# Altium footprint library osc_dev.PcbLib: 32 footprints (part 2 of 2)
Each footprint in its own frame and in the unit in brackets; x right, y up, seen from the top. Pads: shape width x height; smd on the part's side, far side on the other; paste and mask are expansions set on the pad; w line width, h text height; cw(c..) or ccw(c..) is an arc to the next point about the centre after c.
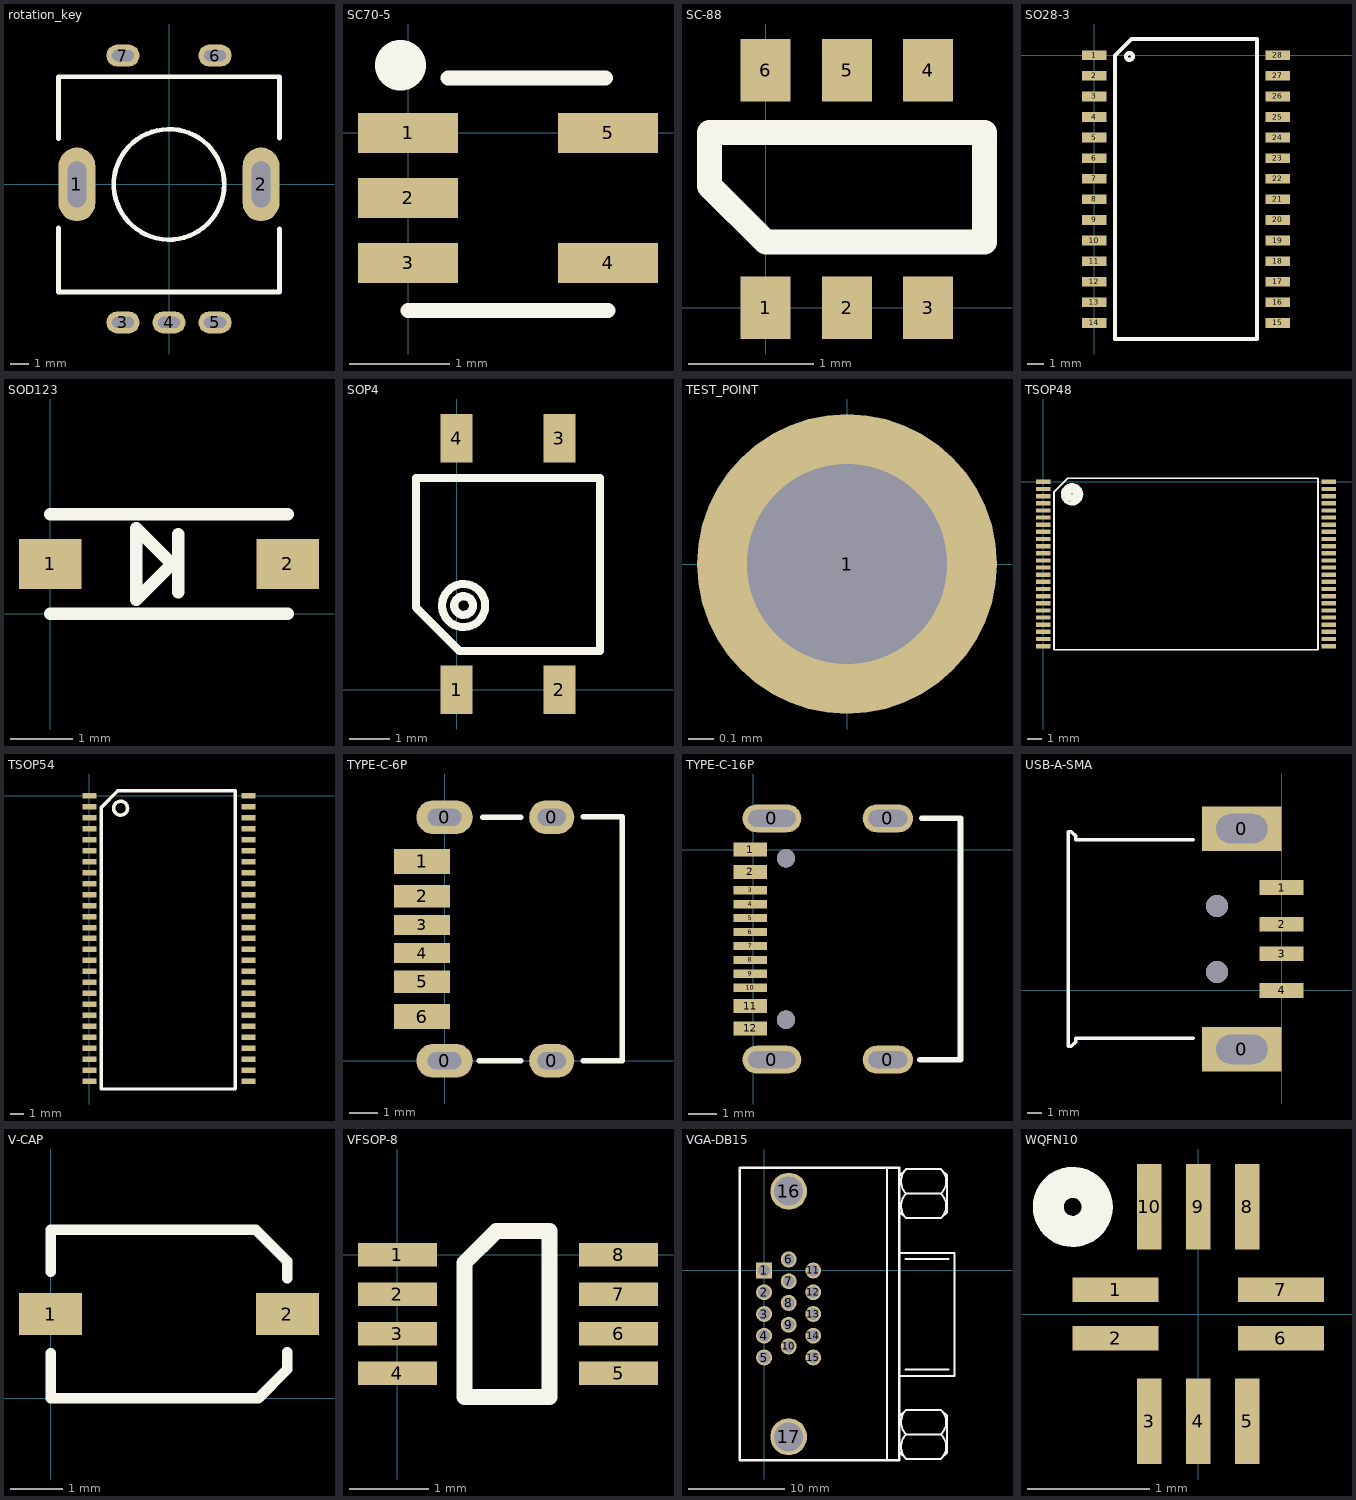
[diagram p1: the footprints below, top view; thin cyan lines are the x and y axes]

## rotation_key [mm]
pads (7):
  oval 2x4 hole 1 slot 2.5 at 90 deg: 1(-5,0) 2(5,0)
  oval 1.8x1.2 hole 0.6 slot 1.2 at 0 deg: 3(-2.5,-7.5) 4(0,-7.5) 5(2.5,-7.5) 6(2.5,7) 7(-2.5,7)
Top Overlay:
  circle w0.254: c0,0 r3
  lines w0.254: -6,-2.35 -6,-5.85 6,-5.85 6,-2.425 ; -6,2.475 -6,5.85 6,5.85 6,2.5

## SC70-5 [mm]
pads (5):
  rect 1x0.4 smd: 1(0,0) 2(0,-0.65) 3(0,-1.3) 4(2,-1.3) 5(2,0)
Top Overlay:
  lines w0.15: 0,-1.775 2,-1.775 ; 0.4,0.55 1.975,0.55 ; 0.4,0.55 0.4,0.55 ; 1.975,0.55 1.975,0.55 ; 1.975,0.55 1.975,0.55
  lines w0.508: -0.075,0.675 ccw(c-0.075,0.675) -0.075,0.675

## SC-88 [mm]
pads (6):
  rect 0.4x0.5 smd: 1(0,0) 2(0.65,0) 3(1.3,0) 4(1.3,1.9) 5(0.65,1.9) 6(0,1.9)
Top Overlay:
  lines w0.2: -0.45,0.975 0,0.525 1.75,0.525 1.75,1.4 -0.45,1.4 -0.45,0.975

## SO28-3 [mm]
pads (28):
  rect 1.5x0.6 smd: 1(0,0) 2(0,-1.27) 3(0,-2.54) 4(0,-3.81) 5(0,-5.08) 6(0,-6.35) 7(0,-7.62) 8(0,-8.89) 9(0,-10.16) 10(0,-11.43) 11(0,-12.7) 12(0,-13.97) 13(0,-15.24) 14(0,-16.51) 15(11.3,-16.51) 16(11.3,-15.24) 17(11.3,-13.97) 18(11.3,-12.7) 19(11.3,-11.43) 20(11.3,-10.16) 21(11.3,-8.89) 22(11.3,-7.62) 23(11.3,-6.35) 24(11.3,-5.08) 25(11.3,-3.81) 26(11.3,-2.54) 27(11.3,-1.27) 28(11.3,0)
Top Overlay:
  circle w0.254: c2.163,-0.075 r0.212
  lines w0.254: 1.275,-17.5 1.275,-0.025 2.3,1 10.025,1 10.025,-17.5 1.275,-17.5

## SOD123 [mm]
pads (2):
  rect 1x0.8 smd: 1(0,0.8) 2(3.8,0.8)
Top Overlay:
  lines w0.2: 0,0 3.8,0 ; 0,1.6 3.8,1.6 ; 2.05,0.35 2.05,1.275 ; 1.375,1.375 1.95,0.8 1.925,0.775 1.375,0.225 1.375,1.375 ; 1.375,1.375 1.375,1.375

## SOP4 [mm]
pads (4):
  rect 0.8x1.2 smd: 1(0,0) 2(2.54,0) 3(2.54,6.2) 4(0,6.2)
Top Overlay:
  circle w0.2: c0.175,2.075 r0.532
  circle w0.2: c0.175,2.075 r0.23
  lines w0.2: -1,2.025 -1,5.225 3.54,5.225 3.54,0.95 0.075,0.95 -1,2.025

## TEST_POINT [mm]
pads (1):
  round 1.2 hole 0.8: 1(0,0)

## TSOP48 [mm]
pads (48):
  rect 1x0.3 smd: 1(0,0) 2(0,-0.5) 3(0,-1) 4(0,-1.5) 5(0,-2) 6(0,-2.5) 7(0,-3) 8(0,-3.5) 9(0,-4) 10(0,-4.5) 11(0,-5) 12(0,-5.5) 13(0,-6) 14(0,-6.5) 15(0,-7) 16(0,-7.5) 17(0,-8) 18(0,-8.5) 19(0,-9) 20(0,-9.5) 21(0,-10) 22(0,-10.5) 23(0,-11) 24(0,-11.5) 25(20,-11.5) 26(20,-11) 27(20,-10.5) 28(20,-10) 29(20,-9.5) 30(20,-9) 31(20,-8.5) 32(20,-8) 33(20,-7.5) 34(20,-7) 35(20,-6.5) 36(20,-6) 37(20,-5.5) 38(20,-5) 39(20,-4.5) 40(20,-4) 41(20,-3.5) 42(20,-3) 43(20,-2.5) 44(20,-2) 45(20,-1.5) 46(20,-1) 47(20,-0.5) 48(20,0)
Top Overlay:
  circle w0.254: c2.025,-0.85 r0.18
  circle w0.254: c2.025,-0.85 r0.426
  circle w0.254: c2.025,-0.875 r0.656
  lines w0.127: 0.75,-11.75 19.25,-11.75 19.25,0.25 1.725,0.25 0.75,-0.725 0.75,-11.75

## TSOP54 [mm]
pads (54):
  rect 1x0.4 smd: 1(0,0) 2(0,-0.8) 3(0,-1.6) 4(0,-2.4) 5(0,-3.2) 6(0,-4) 7(0,-4.8) 8(0,-5.6) 9(0,-6.4) 10(0,-7.2) 11(0,-8) 12(0,-8.8) 13(0,-9.6) 14(0,-10.4) 15(0,-11.2) 16(0,-12) 17(0,-12.8) 18(0,-13.6) 19(0,-14.4) 20(0,-15.2) 21(0,-16) 22(0,-16.8) 23(0,-17.6) 24(0,-18.4) 25(0,-19.2) 26(0,-20) 27(0,-20.8) 28(11.6,-20.8) 29(11.6,-20) 30(11.6,-19.2) 31(11.6,-18.4) 32(11.6,-17.6) 33(11.6,-16.8) 34(11.6,-16) 35(11.6,-15.2) 36(11.6,-14.4) 37(11.6,-13.6) 38(11.6,-12.8) 39(11.6,-12) 40(11.6,-11.2) 41(11.6,-10.4) 42(11.6,-9.6) 43(11.6,-8.8) 44(11.6,-8) 45(11.6,-7.2) 46(11.6,-6.4) 47(11.6,-5.6) 48(11.6,-4.8) 49(11.6,-4) 50(11.6,-3.2) 51(11.6,-2.4) 52(11.6,-1.6) 53(11.6,-0.8) 54(11.6,0)
Top Overlay:
  circle w0.254: c2.269,-0.9 r0.506
  lines w0.254: 0.875,-21.375 10.625,-21.375 10.625,0.375 2.075,0.375 0.875,-0.825 0.875,-21.375

## TYPE-C-6P [mm]
pads (10):
  oval 2x1.2 hole 0.6 slot 1.2 at 0 deg: 0(0,0) 0(0,8.64)
  oval 1.6x1.2 hole 0.6 slot 1 at 0 deg: 0(3.8,0) 0(3.8,8.64)
  rect 2x0.9 smd: 1(-0.8,7.07) 6(-0.8,1.57)
  rect 2x0.8 smd: 2(-0.8,5.84) 5(-0.8,2.8)
  rect 2x0.7 smd: 3(-0.8,4.82) 4(-0.8,3.82)
Top Overlay:
  lines w0.2: 1.225,0 2.7,0 ; 1.35,8.64 2.7,8.64 ; 4.925,0 6.3,0 6.3,8.65 4.925,8.65

## TYPE-C-16P [mm]
pads (16):
  oval 2.1x1 hole 0.6 slot 1.7 at 0 deg: 0(0.675,-7.52) 0(0.675,1.12)
  oval 1.8x1 hole 0.6 slot 1.4 at 0 deg: 0(4.825,-7.52) 0(4.825,1.12)
  rect 1.2x0.5 smd: 1(-0.1,0) 2(-0.1,-0.8) 11(-0.1,-5.6) 12(-0.1,-6.4)
  rect 1.2x0.3 smd: 3(-0.1,-1.45) 4(-0.1,-1.95) 5(-0.1,-2.45) 6(-0.1,-2.95) 7(-0.1,-3.45) 8(-0.1,-3.95) 9(-0.1,-4.45) 10(-0.1,-4.95)
via 1.175,-6.09 diameter 0.65 hole 0.65
via 1.175,-0.31 diameter 0.65 hole 0.65
Top Overlay:
  lines w0.2: 5.975,-7.52 7.425,-7.52 7.425,1.12 6.035,1.12

## USB-A-SMA [mm]
pads (6):
  rect 5.4x3 hole 2 slot 3.5 at 0 deg: 0(-2.7,-4) 0(-2.7,11)
  rect 3x1 smd: 1(0,7) 2(0,4.5) 3(0,2.5) 4(0,0)
via -4.4,5.75 diameter 1.5 hole 1.5
via -4.4,1.25 diameter 1.5 hole 1.5
Top Overlay:
  lines w0.254: -6,-3.25 -14,-3.25 -14,-3.5 -14.3,-3.8 -14.5,-3.8 -14.5,10.8 -14.3,10.8 -14,10.5 -14,10.25 -6,10.25

## V-CAP [mm]
pads (2):
  rect 1.2x0.8 smd: 1(0,1.6) 2(4.5,1.6)
Top Overlay:
  lines w0.2: 0,0.85 0,0 3.95,0 4.5,0.55 4.5,0.875 ; 0,2.4 0,3.2 3.9,3.2 4.5,2.6 4.5,2.275

## VFSOP-8 [mm]
pads (8):
  rect 1x0.3 smd: 1(0,0) 2(0,-0.5) 3(0,-1) 4(0,-1.5) 5(2.8,-1.5) 6(2.8,-1) 7(2.8,-0.5) 8(2.8,0)
Top Overlay:
  lines w0.2: 0.85,-1.8 1.925,-1.8 1.925,0.3 1.25,0.3 0.85,-0.1 0.85,-1.8

## VGA-DB15 [mil]
pads (17):
  rect 65x65 hole 48: 1(0,0)
  round 65 hole 48: 2(0,-88.58) 3(0,-177.16) 4(0,-265.75) 5(0,-354.33) 6(100,45) 7(100,-43.58) 8(100,-132.16) 9(100,-220.75) 10(100,-309.33) 11(200,0) 12(200,-88.58) 13(200,-177.16) 14(200,-265.75) 15(200,-354.33)
  round 150 hole 118.11: 16(100,322.83) 17(100,-677.16)
Top Overlay:
  lines w8: 500,-772.16 500,419.08 ; 550,-428.83 775,-428.83 775,71.17 550,71.17 ; 553.33,-742.16 578.33,-767.16 720,-767.16 745,-742.16 745,-592.16 720,-567.16 578.33,-567.16 553.33,-592.16 ; 553.33,237.84 578.33,212.84 720,212.84 745,237.84 745,387.83 720,412.83 578.33,412.83 553.33,387.83 ; 575,-403.83 750,-403.83 ; 575,46.17 750,46.17 ; 578.25,-767.25 cw(c628.33,-717.16) 578.25,-667.08 ; 578.25,-667.25 cw(c628.33,-617.16) 578.25,-567.08 ; 578.25,212.75 cw(c628.33,262.83) 578.25,312.92 ; 578.25,312.75 cw(c628.33,362.83) 578.25,412.92 ; 578.33,-667.16 720,-667.16 ; 578.33,312.83 720,312.83 ; 720.09,-767.25 ccw(c670,-717.16) 720.09,-667.08 ; 720.09,-667.25 ccw(c670,-617.16) 720.09,-567.08 ; 720.09,212.75 ccw(c670,262.83) 720.09,312.92 ; 720.09,312.75 ccw(c670,362.83) 720.09,412.92
  lines w10: -100,-772.16 -100,417.83 550,417.83 550,-772.16 -100,-772.16

## WQFN10 [mm]
pads (10):
  rect 0.7x0.2 smd: 1(-0.675,0.2) 2(-0.675,-0.2) 6(0.675,-0.2) 7(0.675,0.2)
  rect 0.2x0.7 smd: 3(-0.4,-0.875) 4(0,-0.875) 5(0.4,-0.875) 8(0.4,0.875) 9(0,0.875) 10(-0.4,0.875)
Top Overlay:
  lines w0.254: -0.828,0.908 ccw(c-1.025,0.875) -0.825,0.875